# EAGLE library part TEENSY3.1 (library scono)
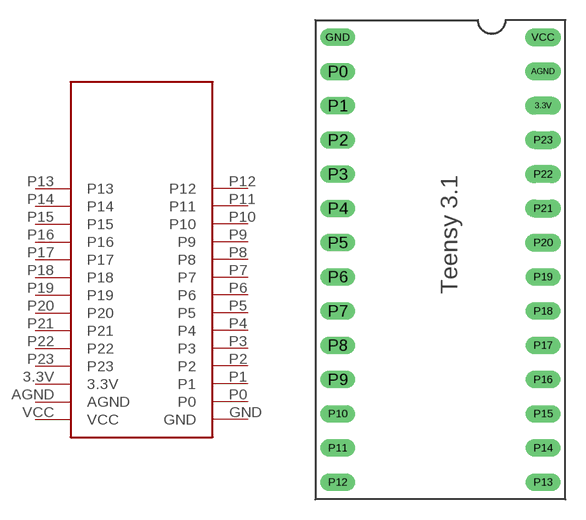
[diagram p5: symbol with the pads of TEENSY3.0; footprint TEENSY3.0]

Designator prefix -

## TEENSY3.1  [TEENSY3.0]
3.3V  3.3V
AGND  AGND
GND  GND
P0  P0
P1  P1
P2  P2
P3  P3
P4  P4
P5  P5
P6  P6
P7  P7
P8  P8
P9  P9
P10  P10
P11  P11
P12  P12
P13  P13
P14  P14
P15  P15
P16  P16
P17  P17
P18  P18
P19  P19
P20  P20
P21  P21
P22  P22
P23  P23
VCC  VCC

## Footprint TEENSY3.0 (pad centres in mm)
drill 0.813 long: 3.3V 15.24,27.931; AGND 15.24,30.471; P20 15.24,17.771; P21 15.24,20.311; P22 15.24,22.851; P23 15.24,25.391; VCC 15.24,33.011
drill 0.8 long: GND 0,33.011; P0 0,30.471; P1 0,27.931; P2 0,25.391; P3 0,22.851; P4 0,20.311; P5 0,17.771; P6 0,15.231; P7 0,12.691; P8 0,10.151; P9 0,7.611; P10 0,5.071; P11 0,2.531; P12 0,-0.009; P13 15.24,-0.009; P14 15.24,2.531; P15 15.24,5.071; P16 15.24,7.611; P17 15.24,10.151; P18 15.24,12.691; P19 15.24,15.231